# EAGLE library part MPCIE-SOCKET (library wimax-cpe)
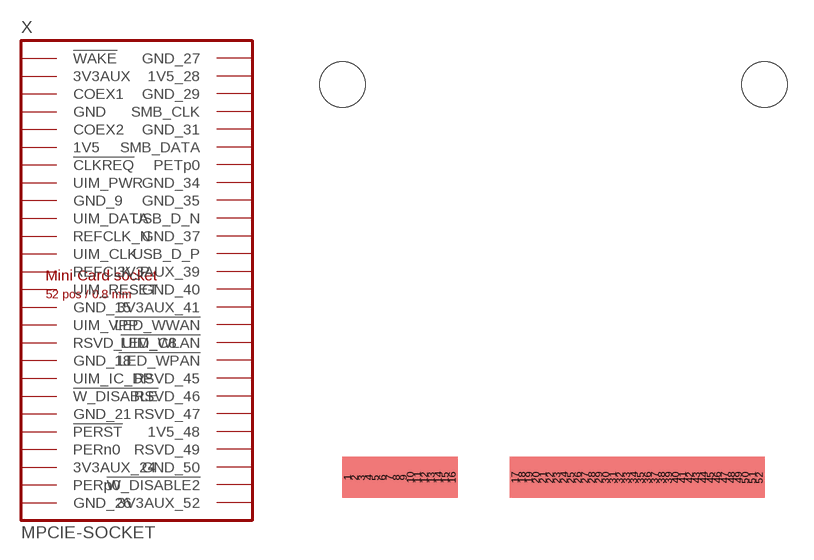
[diagram p2: symbol with the pads of MPCIE; footprint MPCIE]

Designator prefix X

## MPCIE-SOCKET  [MPCIE]
1  !WAKE  pas
2  3V3AUX  pas
3  COEX1  pas
4  GND  pas
5  COEX2  pas
6  1V5  pas
7  !CLKREQ  pas
8  UIM_PWR  pas
9  GND_9  pas
10  UIM_DATA  pas
11  REFCLK_N  pas
12  UIM_CLK  pas
13  REFCLK_P  pas
14  UIM_RESET  pas
15  GND_15  pas
16  UIM_VPP  pas
17  RSVD_UIM_C8  pas
18  GND_18  pas
19  UIM_IC_DP  pas
20  !W_DISABLE  pas
21  GND_21  pas
22  !PERST  pas
23  PERn0  pas
24  3V3AUX_24  pas
25  PERp0  pas
26  GND_26  pas
27  GND_27  pas
28  1V5_28  pas
29  GND_29  pas
30  SMB_CLK  pas
31  GND_31  pas
32  SMB_DATA  pas
33  PETp0  pas
34  GND_34  pas
35  GND_35  pas
36  USB_D_N  pas
37  GND_37  pas
38  USB_D_P  pas
39  3V3AUX_39  pas
40  GND_40  pas
41  3V3AUX_41  pas
42  !LED_WWAN  pas
43  !LED_WLAN  pas
44  !LED_WPAN  pas
45  RSVD_45  pas
46  RSVD_46  pas
47  RSVD_47  pas
48  1V5_48  pas
49  RSVD_49  pas
50  GND_50  pas
51  !W_DISABLE2  pas
52  3V3AUX_52  pas

## Footprint MPCIE (pad centres in mm)
PCI Express Mini Card socket, 52 positions at 0.8 mm, two staggered rows, half-size card (30 x 26.8 mm), Ø2.6 mounting holes
smd 0.6 x 2.35: 1 -7.95,1.375; 2 -7.55,1.375; 3 -7.15,1.375; 4 -6.75,1.375; 5 -6.35,1.375; 6 -5.95,1.375; 7 -5.55,1.375; 8 -5.15,1.375; 9 -4.75,1.375; 10 -4.35,1.375; 11 -3.95,1.375; 12 -3.55,1.375; 13 -3.15,1.375; 14 -2.75,1.375; 15 -2.35,1.375; 16 -1.95,1.375; 17 1.65,1.375; 18 2.05,1.375; 19 2.45,1.375; 20 2.85,1.375; 21 3.25,1.375; 22 3.65,1.375; 23 4.05,1.375; 24 4.45,1.375; 25 4.85,1.375; 26 5.25,1.375; 27 5.65,1.375; 28 6.05,1.375; 29 6.45,1.375; 30 6.85,1.375; 31 7.25,1.375; 32 7.65,1.375; 33 8.05,1.375; 34 8.45,1.375; 35 8.85,1.375; 36 9.25,1.375; 37 9.65,1.375; 38 10.05,1.375; 39 10.45,1.375; 40 10.85,1.375; 41 11.25,1.375; 42 11.65,1.375; 43 12.05,1.375; 44 12.45,1.375; 45 12.85,1.375; 46 13.25,1.375; 47 13.65,1.375; 48 14.05,1.375; 49 14.45,1.375; 50 14.85,1.375; 51 15.25,1.375; 52 15.65,1.375
hole 2.6 at -8.25,23.9
hole 2.6 at 15.95,23.9